# Altium footprint library MasaLibrary.PcbLib: 8 footprints
Each footprint in its own frame and in the unit in brackets; x right, y up, seen from the top. Pads: shape width x height; smd on the part's side, far side on the other; paste and mask are expansions set on the pad; w line width, h text height; cw(c..) or ccw(c..) is an arc to the next point about the centre after c.
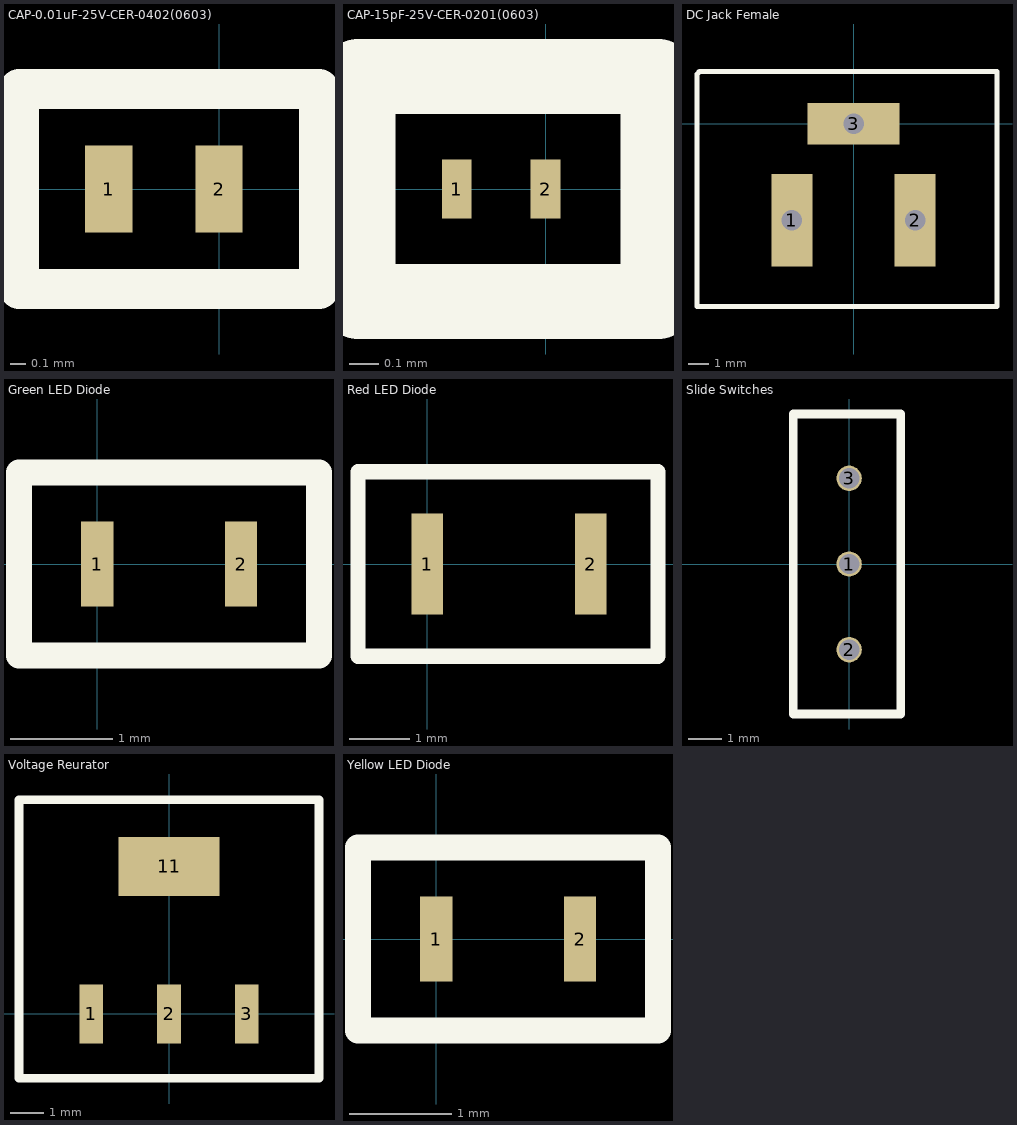
[diagram p0: the footprints below, top view; thin cyan lines are the x and y axes]

## CAP-0.01uF-25V-CER-0402(0603) [mm]
pads (2):
  rect 0.3x0.55 all layers, no hole: 1(-0.7,0) 2(0,0)
Top Overlay:
  lines w0.254: -1.27,-0.635 -1.27,0.635 0.635,0.635 0.635,-0.635 -1.27,-0.635

## CAP-15pF-25V-CER-0201(0603) [mm]
pads (2):
  rect 0.1x0.2 smd: 1(-0.3,0) 2(0,0)
Top Overlay:
  lines w0.254: -0.635,-0.381 0.381,-0.381 0.381,0.381 -0.635,0.381 -0.635,-0.381

## DC Jack Female [mm] "Jack_2.5A_16V_Through_Hole__copper_CUI"
pads (3):
  rect 2x4.5 hole 1 square: 1(-3,-4.7) 2(3,-4.7)
  rect 4.5x2 hole 1 square: 3(0,0)
Top Overlay:
  lines w0.254: 4.064,2.54 6.985,2.54 6.985,-8.89 -7.62,-8.89 -7.62,2.413 -7.493,2.54 4.445,2.54

## Green LED Diode [mm] "GREEN_20mA_2.1V_230mcd_Kingbright"
pads (2):
  rect 0.312x0.831 smd: 1(0,0) 2(1.4,0)
Top Overlay:
  lines w0.254: -0.762,-0.889 2.159,-0.889 2.159,0.889 -0.762,0.889 -0.762,-0.889

## Red LED Diode [mm] "RED_20mA_1.95V_1000mcd_Kingbright"
pads (2):
  rect 0.52x1.663 smd: 1(0,0) 2(2.7,0)
Top Overlay:
  lines w0.254: -1.143,-1.524 -1.143,1.524 3.81,1.524 3.81,-1.524 -1.143,-1.524

## Slide Switches [mm] "500mA_12V_ Extended_Straight_Gold_EAO_1K2_BLK_ACT_GOLD_TRT_MNT"
pads (3):
  round 0.75 hole 0.6: 1(0,0) 2(0,-2.54) 3(0,2.54)
Top Overlay:
  lines w0.254: 1.016,4.445 1.524,4.445 1.524,-4.445 -1.651,-4.445 -1.651,4.445 1.27,4.445

## Voltage Reurator [mm] "15V_3.3V_1output_1.1V_5mA_SOT-223-3_STM"
pads (4):
  rect 0.7x1.75 smd: 1(-2.3,0) 2(0,0) 3(2.3,0)
  rect 3x1.75 smd: 11(0,4.375)
Top Overlay:
  lines w0.254: -4.445,-1.905 4.445,-1.905 4.445,6.35 4.191,6.35 -4.445,6.35 -4.445,-1.905

## Yellow LED Diode [mm] "YELLOW_20mA_2V_480mcd_Kingbright"
pads (2):
  rect 0.312x0.831 smd: 1(0,0) 2(1.4,0)
Top Overlay:
  lines w0.254: -0.635,0.889 1.905,0.889 2.159,0.889 2.159,-0.889 1.905,-0.889 -0.762,-0.889 -0.762,0.889 -0.254,0.889